# Altium footprint library BAT_1048P.PcbLib: 1 footprints
Each footprint in its own frame and in the unit in brackets; x right, y up, seen from the top. Pads: shape width x height; smd on the part's side, far side on the other; paste and mask are expansions set on the pad; w line width, h text height; cw(c..) or ccw(c..) is an arc to the next point about the centre after c.
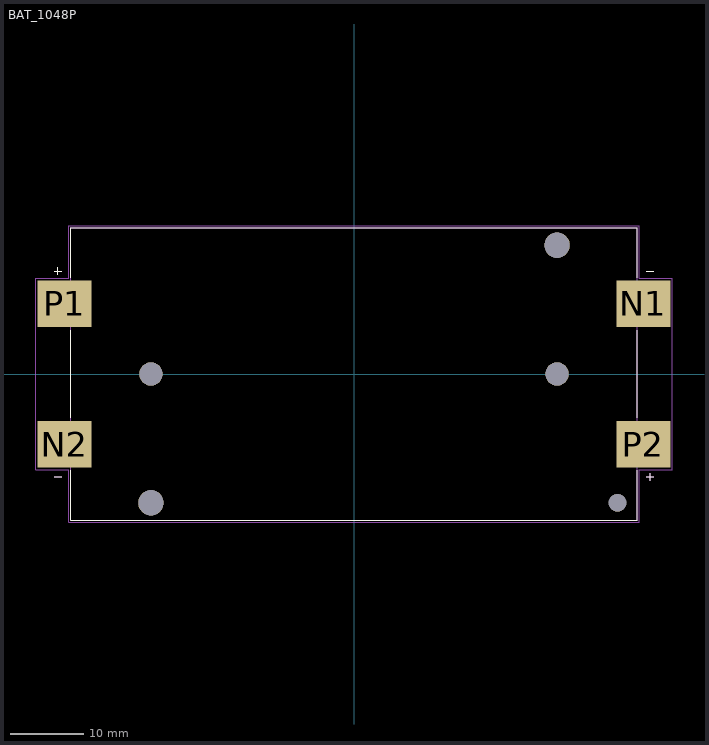
[diagram p0: the footprint, top view; thin cyan lines are the x and y axes]

## BAT_1048P [mm]
height 14.85
pads (9):
  rect 7.34x6.35 smd: N1(39.33,9.555) N2(-39.33,-9.555) P1(-39.33,9.555) P2(39.33,-9.555)
  round 3.45 hole 3.45 unplated: ""(-27.6,-17.505) ""(27.6,17.505)
  round 3.17 hole 3.17 unplated: ""(-27.6,0) ""(27.6,0)
  round 2.39 hole 2.39 unplated: ""(35.82,-17.505)
Top Overlay:
  lines w0.127: -40.75,-14 -39.75,-14 ; -40.75,14 -39.75,14 ; -40.25,13.5 -40.25,14.5 ; -38.53,-13.05 -38.53,-19.89 38.53,-19.89 38.53,-13.05 ; -38.53,-5.95 -38.53,5.95 ; -38.53,13.05 -38.53,19.89 38.53,19.89 38.53,13.05 ; 38.53,-5.95 38.53,5.95 ; 39.75,-14 40.75,-14 ; 39.75,14 40.75,14 ; 40.25,-14.5 40.25,-13.5
Mechanical 13:
  lines w0.127: -40.75,-14 -39.75,-14 ; -40.75,14 -39.75,14 ; -40.25,13.5 -40.25,14.5 ; 39.75,-14 40.75,-14 ; 39.75,14 40.75,14 ; 40.25,-14.5 40.25,-13.5 ; -38.53,-19.89 -38.53,19.89 38.53,19.89 38.53,-19.89 -38.53,-19.89
Mechanical 15:
  lines w0.05: -43.25,-13 -43.25,13 -38.78,13 -38.78,20.14 38.78,20.14 38.78,13 43.25,13 43.25,-13 38.78,-13 38.78,-20.14 -38.78,-20.14 -38.78,-13 -43.25,-13
3D body "step_temp.STEP": height 15.05, standoff -3.24, extent -43.002,-19.888 43.002,19.888